# EAGLE library part ZXMHC3A01T8 (library ZXMHC3A01T8)
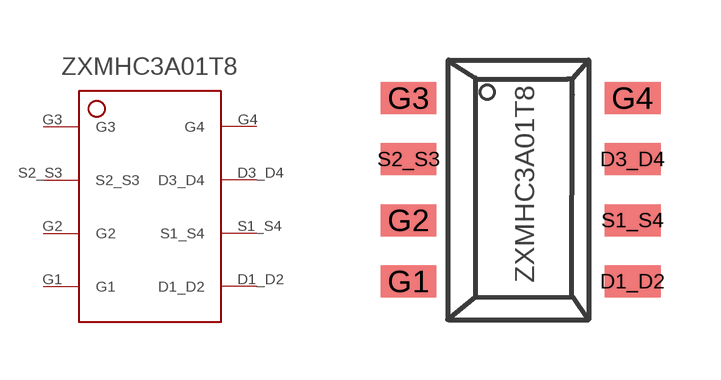
[diagram p0: symbol with the pads of ZXMHC3A01T8; footprint ZXMHC3A01T8]

Designator prefix -

## ZXMHC3A01T8  [ZXMHC3A01T8]
D1_D2  D1_D2
D3_D4  D3_D4
G1  G1
G2  G2
G3  G3
G4  G4
S1_S4  S1_S4
S2_S3  S2_S3

## Footprint ZXMHC3A01T8 (pad centres in mm)
smd 1.4 x 0.8: D1_D2 2.695,-2.22; D3_D4 2.695,0.84; G1 -2.905,-2.22; G2 -2.905,-0.69; G3 -2.905,2.37; G4 2.695,2.37; S1_S4 2.695,-0.69; S2_S3 -2.905,0.84